# Altium integrated library 796949-3.IntLib: 1 symbol
Pins are listed as number, name and electrical type; pins without a type are passive.

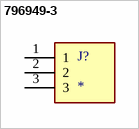
[diagram p0: symbol 796949-3]

## 796949-3
designator J?
Connector Terminal Blocks 3 Position 5.08mm Solder Straight Thru-Hole 17.5A/Contact; MP: 796949-3; MF: TE Connectivity; Check_prices: https://www.snapeda.com/parts/796949-3/TE+Connectivity+AMP+Connectors/view-part/?ref=eda; Value: *; Availability: In Stock; Price: None; Package: None; SnapEDA_Link: https://www.snapeda.com/parts/796949-3/TE+Connectivity+AMP+Connectors/view-part/?ref=snap; Purchase-URL: https://pricing.snapeda.com/search/part/796949-3/?ref=eda
footprint TE_796949-3
pins: 1, 2, 3